# EAGLE library part NFP-20A (library Traficon)
90° pinheader for connection to high density (0.025") flatcable connectors
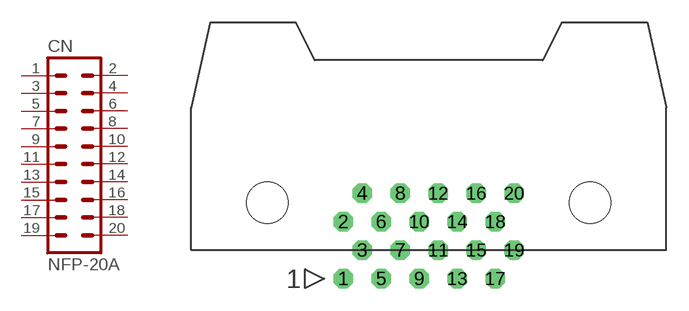
[diagram p59: symbol with the pads of NFP-20A; footprint NFP-20A]

Designator prefix CN

## NFP-20A  [NFP-20A]
1  1  pas
2  2  pas
3  3  pas
4  4  pas
5  5  pas
6  6  pas
7  7  pas
8  8  pas
9  9  pas
10  10  pas
11  11  pas
12  12  pas
13  13  pas
14  14  pas
15  15  pas
16  16  pas
17  17  pas
18  18  pas
19  19  pas
20  20  pas

## Footprint NFP-20A (pad centres in mm)
drill 0.8 octagon: 1 -6.35,-7.62; 2 -6.35,-3.81; 3 -5.08,-5.715; 4 -5.08,-1.905; 5 -3.81,-7.62; 6 -3.81,-3.81; 7 -2.54,-5.715; 8 -2.54,-1.905; 9 -1.27,-7.62; 10 -1.27,-3.81; 11 0,-5.715; 12 0,-1.905; 13 1.27,-7.62; 14 1.27,-3.81; 15 2.54,-5.715; 16 2.54,-1.905; 17 3.81,-7.62; 18 3.81,-3.81; 19 5.08,-5.715; 20 5.08,-1.905
hole 2.8 at -11.43,-2.54
hole 2.8 at 10.16,-2.54